# Altium schematic symbol library LT3652EDD#PBF.SchLib: 2 symbols
Pins are listed as number, name and electrical type; pins without a type are passive.

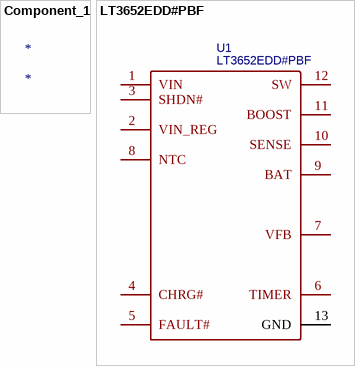
[diagram p0: symbols Component_1 to LT3652EDD#PBF]

## Component_1
designator *

## LT3652EDD#PBF
designator U1
4.95V~32V Multi-Chemical 1~4 2A DFN-12(3x3) Battery Management ROHS; Manufacturer: ADI(亚德诺); Supplier: LCSC; Manufacturer Part: LT3652EDD#PBF; Supplier Part: C96510; JLCPCB Part Class: Extended Part; spicePre: U; spiceSymbolName: LT3652EDD#PBF
footprint DFN-12_L3.0-W3.0-P0.50-LS3.0-BL-EP
pins: 1 VIN, 2 VIN_REG, 3 SHDN#, 4 CHRG#, 5 FAULT#, 6 TIMER, 7 VFB, 8 NTC, 9 BAT, 10 SENSE, 11 BOOST, 12 SW, 13 GND